# Altium footprint library GRPB102VWVN-RC.PcbLib: 1 footprints
Each footprint in its own frame and in the unit in brackets; x right, y up, seen from the top. Pads: shape width x height; smd on the part's side, far side on the other; paste and mask are expansions set on the pad; w line width, h text height; cw(c..) or ccw(c..) is an arc to the next point about the centre after c.
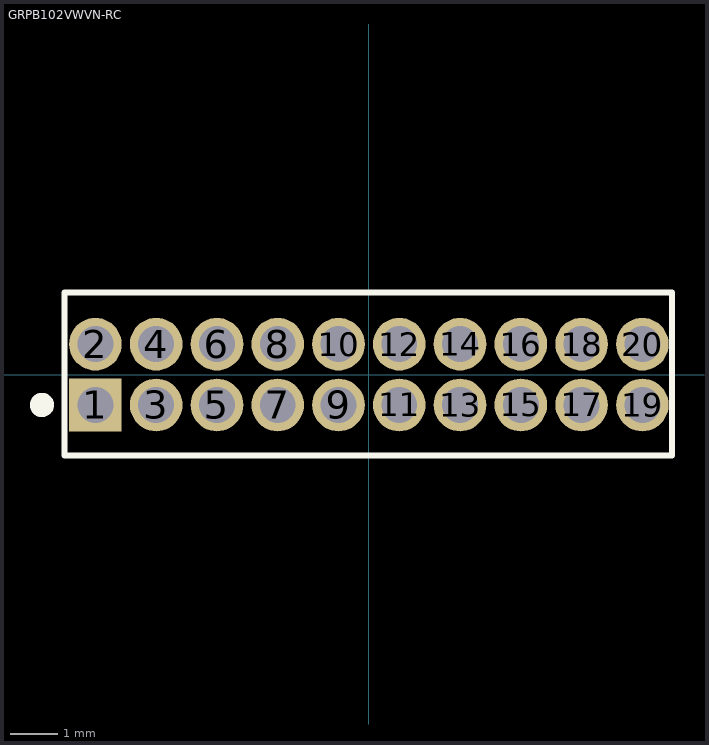
[diagram p0: the footprint, top view; thin cyan lines are the x and y axes]

## GRPB102VWVN-RC [mm]
pads (20):
  rect 1.1x1.1 hole 0.75 mask+0.05: 1(-5.715,-0.635)
  round 1.1 hole 0.75 mask+0.05: 2(-5.715,0.635) 3(-4.445,-0.635) 4(-4.445,0.635) 5(-3.175,-0.635) 6(-3.175,0.635) 7(-1.905,-0.635) 8(-1.905,0.635) 9(-0.635,-0.635) 10(-0.635,0.635) 11(0.635,-0.635) 12(0.635,0.635) 13(1.905,-0.635) 14(1.905,0.635) 15(3.175,-0.635) 16(3.175,0.635) 17(4.445,-0.635) 18(4.445,0.635) 19(5.715,-0.635) 20(5.715,0.635)
Top Overlay:
  circle w0.254: c-6.833,-0.635 r0.127
  lines w0.127: -6.363,-1.688 6.337,-1.688 6.337,1.712 -6.363,1.712 -6.363,-1.688
3D body: height 4.7, standoff -2.6, extent -6.363,-1.498 6.337,1.502